# Altium footprint library Diodes.PcbLib: 9 footprints
Each footprint in its own frame and in the unit in brackets; x right, y up, seen from the top. Pads: shape width x height; smd on the part's side, far side on the other; paste and mask are expansions set on the pad; w line width, h text height; cw(c..) or ccw(c..) is an arc to the next point about the centre after c.
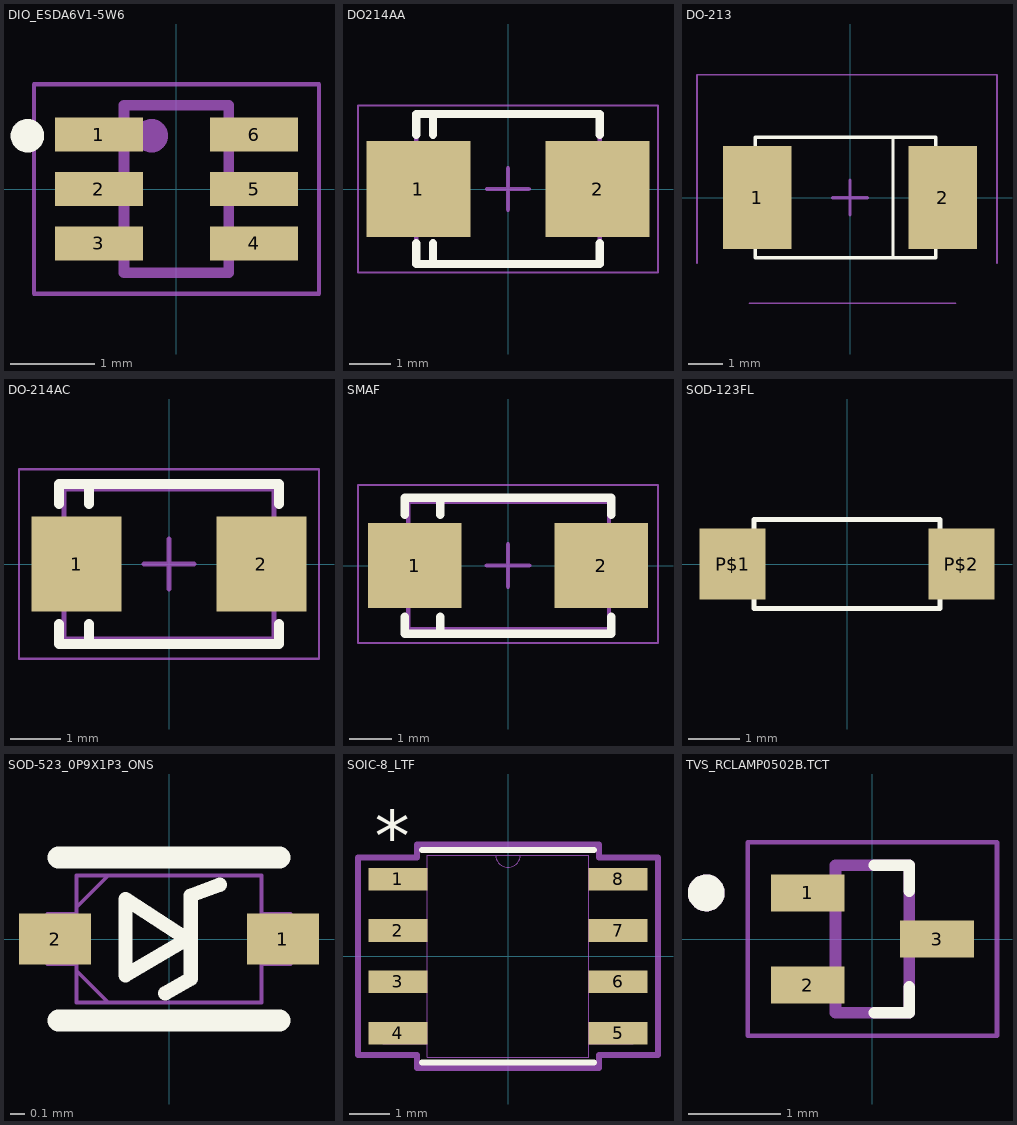
[diagram p0: the footprints below, top view; thin cyan lines are the x and y axes]

## DIO_ESDA6V1-5W6 [mm]
pads (6):
  rect 1.05x0.4 smd: 1(-0.925,0.65) 3(-0.925,-0.65) 4(0.925,-0.65) 5(0.925,0) 6(0.925,0.65)
  rect 1.05x0.4 smd mask+0.102: 2(-0.925,0)
Top Overlay:
  circle w0.2: c-1.778,0.635 r0.1
Mechanical 13:
  circle w0.2: c-0.3,0.635 r0.1
  lines w0.127: -0.625,-1 0.625,-1 0.625,1 -0.625,1 -0.625,-1
Mechanical 15:
  lines w0.05: -1.7,-1.25 1.7,-1.25 1.7,1.25 -1.7,1.25 -1.7,-1.25
3D body "step_temp.STEP": height 1.1, standoff 0, extent -1.05,-1 1.05,1

## DO214AA [mm] "Molded Capacitor, 2-Leads, Body 6,85x5,91mm, IPC Medium Density"
height 2.62
pads (2):
  rect 2.5x2.3 smd: 1(-2.15,0) 2(2.15,0)
Top Overlay:
  lines w0.2: -2.2,-1.3 -2.2,-1.8 2.2,-1.8 2.2,-1.3 ; -2.2,1.3 -2.2,1.8 2.2,1.8 2.2,1.3 ; -1.8,-1.8 -1.8,-1.3 ; -1.8,1.3 -1.8,1.8
Mechanical 13:
  lines w0.1: -2.2,-1.8 2.2,-1.8 2.2,1.8 -2.2,1.8 -2.2,-1.8
Mechanical 15:
  lines w0.05: -3.6,-2 3.6,-2 3.6,2 -3.6,2 -3.6,-2
  lines w0.1: -0.5,0 0.5,0 ; 0,-0.5 0,0.5
3D body: height 2.26, standoff 2.25, extent -1.8,-1.7 -1.5,1.7
3D body: height 2.25, standoff 0, extent -2.1,-1.7 2.1,1.7

## DO-213 [mm]
height 1.1
pads (2):
  rect 2x3 smd: 1(-2.7,0) 2(2.7,0)
Top Overlay:
  lines w0.1: -2.75,-1.5 -2.75,-1.75 2.5,-1.75 2.5,-1.5 ; -2.75,1.5 -2.75,1.75 2.5,1.75 2.5,1.5 ; 1.25,-1.75 1.25,1.75
Mechanical 15:
  lines w0.05: -4.45,-1.9 -4.45,3.575 4.275,3.575 4.275,-1.9 ; -2.925,-3.075 3.075,-3.075
  lines w0.1: -0.5,0 0.5,0 ; 0,-0.5 0,0.5
3D body: height 1.5, standoff 0.09, extent 0.925,-0.684 1.425,0.734
3D body: height 1.59, standoff 0, extent -2.3,-0.798 -1.8,0.798
3D body: height 1.59, standoff 0, extent 1.8,-0.773 2.3,0.823
3D body: height 1.49, standoff 0.1, extent -1.8,-0.675 1.8,0.722

## DO-214AC [mm] "SODFL, 2-Leads, Body 1,30x2,50mm, IPC Medium Density"
height 1.1
pads (2):
  rect 1.8x1.9 smd: 1(-1.85,0) 2(1.85,0)
Top Overlay:
  lines w0.2: -2.2,-1.2 -2.2,-1.6 2.2,-1.6 2.2,-1.2 ; -2.2,1.2 -2.2,1.6 2.2,1.6 2.2,1.2 ; -1.6,-1.6 -1.6,-1.2 ; -1.6,1.2 -1.6,1.6
Mechanical 13:
  lines w0.1: -2.1,-1.5 2.1,-1.5 2.1,1.5 -2.1,1.5 -2.1,-1.5
Mechanical 15:
  lines w0.05: -3,-1.9 3,-1.9 3,1.9 -3,1.9 -3,-1.9
  lines w0.1: -0.5,0 0.5,0 ; 0,-0.5 0,0.5
3D body: height 2.3, standoff 0.1, extent -2,-1.4 2,1.4

## SMAF [mm]
height 1.1
pads (2):
  rect 2.2x2 smd: 1(-2.2,0) 2(2.2,0)
Top Overlay:
  lines w0.2: -2.425,-1.2 -2.425,-1.6 2.425,-1.6 2.425,-1.2 ; -2.425,1.2 -2.425,1.6 2.425,1.6 2.425,1.2 ; -1.6,-1.6 -1.6,-1.2 ; -1.6,1.2 -1.6,1.6
Mechanical 13:
  lines w0.1: -2.35,-1.5 2.375,-1.5 2.375,1.5 -2.35,1.5 -2.35,-1.5
Mechanical 15:
  lines w0.05: -3.531,-1.825 3.531,-1.825 3.531,1.9 -3.531,1.9 -3.531,-1.825
  lines w0.1: -0.5,0 0.5,0 ; 0,-0.5 0,0.5
3D body: height 2.5, standoff 0.5, extent -1.644,-1.45 -1.206,1.45
3D body: height 1.5, standoff 0.1, extent -2.275,-1.5 2.3,1.5

## SOD-123FL [mm]
pads (2):
  rect 1.3x1.4 smd paste+0 mask+0.102: P$1(-2.25,0) P$2(2.25,0)
Top Overlay:
  lines w0.1: -1.825,-0.875 -1.825,0.875 1.825,0.875 1.825,-0.875 -1.825,-0.875
3D body "step_temp.STEP": height 1.3, standoff 0, extent -1.856,-0.906 1.844,0.894

## SOD-523_0P9X1P3_ONS [mil]
pads (2):
  rect 19.87x14 smd paste+0 mask+0: 1(31.44,0) 2(-31.44,0)
Top Overlay:
  lines w3.94: -1,-15 6,-11 6,12 14,15 ; -12,-10 5,0 -12,11 -12,-10
  lines w6: -30.5,-22.5 30.5,-22.5 ; -30.5,22.5 30.5,22.5
Mechanical 13:
  lines w1: -25.5,-8.75 -16.75,-17.5 ; -25.5,8.75 -16.75,17.5 ; -33.5,-7 -25.5,-7 -25.5,7 -33.5,7 -33.5,-7 ; -25.5,-17.5 -25.5,17.5 25.5,17.5 25.5,-17.5 -25.5,-17.5 ; 25.5,-7 33.5,-7 33.5,7 25.5,7 25.5,-7
3D body "SOD-523_0P9X1P3_ONS.step": height 18.27, standoff 0, extent -33.5,-17.48 33.5,17.48

## SOIC-8_LTF [mil]
pads (8):
  rect 57.5x22 smd paste+0 mask+0: 1(-107.25,75) 2(-107.25,25) 3(-107.25,-25) 4(-107.25,-75) 5(107.25,-75) 6(107.25,-25) 7(107.25,25) 8(107.25,75)
Top Overlay:
  lines w6: -83.5,-103.5 83.5,-103.5 ; -83.5,103.5 83.5,103.5
  text "*" at -129.75,92 h50
Mechanical 13:
  lines w1: -12,98.5 ccw(c0,98.5) 12,98.5 ; -122,-85 -122,-65 -78.5,-65 -78.5,-85 -122,-85 ; -122,-35 -122,-15 -78.5,-15 -78.5,-35 -122,-35 ; -122,15 -122,35 -78.5,35 -78.5,15 -122,15 ; -122,65 -122,85 -78.5,85 -78.5,65 -122,65 ; -78.5,-98.5 78.5,-98.5 78.5,98.5 -78.5,98.5 -78.5,-98.5 ; 78.5,-85 78.5,-65 122,-65 122,-85 78.5,-85 ; 78.5,-35 78.5,-15 122,-15 122,-35 78.5,-35 ; 78.5,15 78.5,35 122,35 122,15 78.5,15 ; 78.5,65 78.5,85 122,85 122,65 78.5,65
  text "*" at -76,45.5 h50
Mechanical 15:
  lines w6: -146,-96 -146,96 -88.5,96 -88.5,108.5 88.5,108.5 88.5,96 146,96 146,-96 88.5,-96 88.5,-108.5 -88.5,-108.5 -88.5,-96 -146,-96
3D body "SOIC-8_LTF.step": height 69.09, standoff 0, extent -122.01,-98.5 122.01,98.5

## TVS_RCLAMP0502B.TCT [mm]
height 0.9
pads (3):
  rect 0.8x0.4 smd: 1(-0.7,0.5) 2(-0.7,-0.5) 3(0.7,0)
Top Overlay:
  circle w0.2: c-1.8,0.5 r0.1
  lines w0.127: 0.02,-0.8 0.4,-0.8 0.4,-0.52 ; 0.02,0.8 0.4,0.8 0.4,0.52
Mechanical 13:
  circle w0.2: c-1.8,0.5 r0.1
  lines w0.127: -0.4,-0.8 -0.4,0.8 0.4,0.8 0.4,-0.8 -0.4,-0.8
Mechanical 15:
  lines w0.05: -1.35,-1.05 1.35,-1.05 1.35,1.05 -1.35,1.05 -1.35,-1.05
3D body "step_temp.STEP": height 0.9, standoff 0, extent -0.8,-0.8 0.8,0.8